# Altium schematic symbol library FFC Cable.Schlib: 1 symbol
Pins are listed as number, name and electrical type; pins without a type are passive.

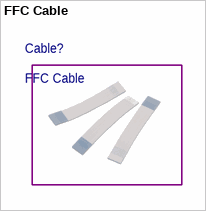
[diagram p0: symbol FFC Cable]

## FFC Cable
designator Cable?